# EAGLE library part ADUM1251 (library Components Library)
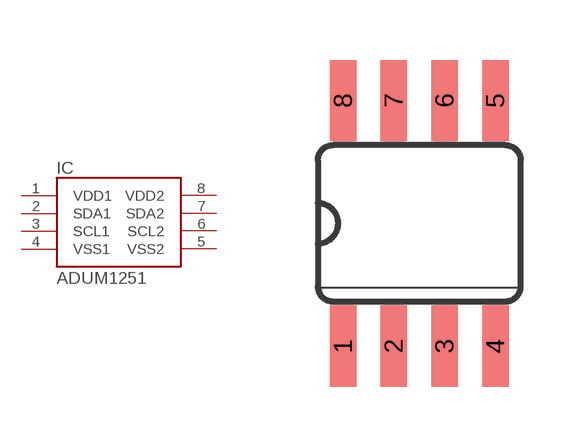
[diagram p1: symbol with the pads of SO08; footprint SO08]

Designator prefix IC

## ADUM1251  [SO08]
1  VDD1  pwr
2  SDA1
3  SCL1
4  VSS1
5  VSS2  pwr
6  SCL2
7  SDA2
8  VDD2  pwr

## Footprint SO08 (pad centres in mm)
smd 0.66 x 2.032: 1 -1.905,-3.073; 2 -0.635,-3.073; 3 0.635,-3.073; 4 1.905,-3.073; 5 1.905,3.073; 6 0.635,3.073; 7 -0.635,3.073; 8 -1.905,3.073